# Altium schematic symbol library Header_6P_TPI.Schlib: 1 symbol
Pins are listed as number, name and electrical type; pins without a type are passive.

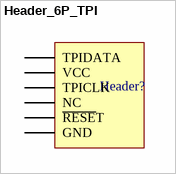
[diagram p0: symbol Header_6P_TPI]

## Header_6P_TPI
designator Header?
For Attiny family
footprint Header_ISP_6P
footprint Header_ISP_6P_SMD
pins: 1 TPIDATA, 2 VCC (power), 3 TPICLK, 4 NC, 5 ~{RESE}T, 6 GND (power)